# Altium footprint library HC05_PCB.PcbLib: 1 footprints
Each footprint in its own frame and in the unit in brackets; x right, y up, seen from the top. Pads: shape width x height; smd on the part's side, far side on the other; paste and mask are expansions set on the pad; w line width, h text height; cw(c..) or ccw(c..) is an arc to the next point about the centre after c.
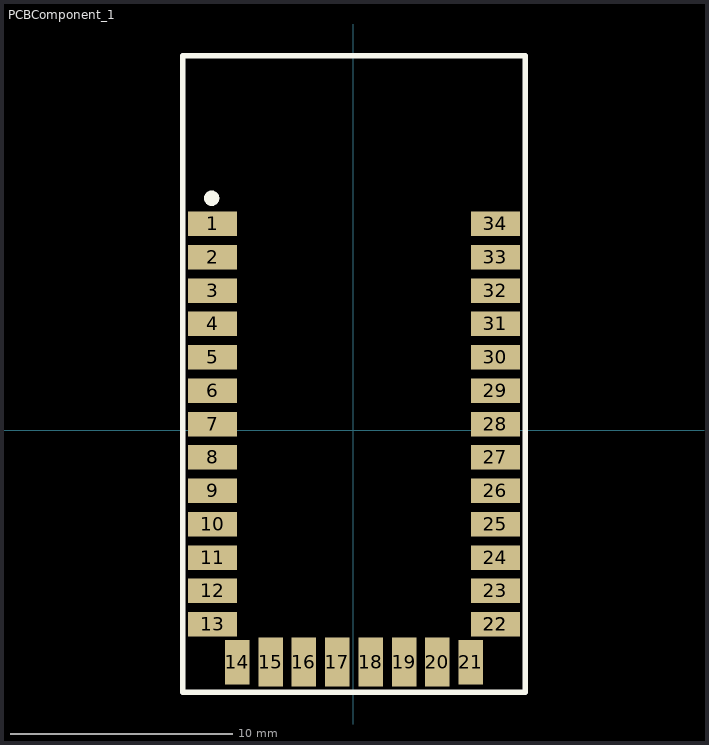
[diagram p0: the footprint, top view; thin cyan lines are the x and y axes]

## PCBComponent_1 [mm]
pads (36):
  rect 2.2x1.1 smd mask+0.102: 1(-6.325,9.275) 2(-6.325,7.775) 3(-6.325,6.275) 4(-6.325,4.775) 5(-6.325,3.275) 6(-6.325,1.775) 7(-6.325,0.275) 8(-6.325,-1.225) 9(-6.325,-2.725) 10(-6.325,-4.225) 11(-6.325,-5.725) 12(-6.325,-7.225) 13(-6.325,-8.725) 22(6.375,-8.725) 22(6.375,-8.725) 23(6.375,-7.225) 24(6.375,-5.725) 25(6.375,-4.225) 26(6.375,-2.725) 27(6.375,-1.225) 28(6.375,0.275) 29(6.375,1.775) 30(6.375,3.275) 31(6.375,4.775) 32(6.375,6.275) 33(6.375,7.775) 34(6.375,9.275)
  rect 1.1x2 smd mask+0.102: 14(-5.225,-10.425) 21(5.275,-10.425)
  rect 1.1x2.2 smd mask+0.102: 15(-3.725,-10.425) 16(-2.225,-10.425) 17(-0.725,-10.425) 18(0.775,-10.425) 19(2.275,-10.425) 20(3.775,-10.425)
  round 0.7 on Top Overlay: ""(-6.375,10.425)
Top Overlay:
  lines w0.254: -7.675,-11.775 -7.675,16.425 -7.675,16.825 7.725,16.825 7.725,-11.775 -7.675,-11.775
3D body "HC05_06.STEP": height 1.8, standoff -0.1, extent -6.475,-10.457 6.535,16.548